# Altium schematic symbol library SCH - ADC - TI AD9057.SCHLIB: 1 symbol
Pins are listed as number, name and electrical type; pins without a type are passive.

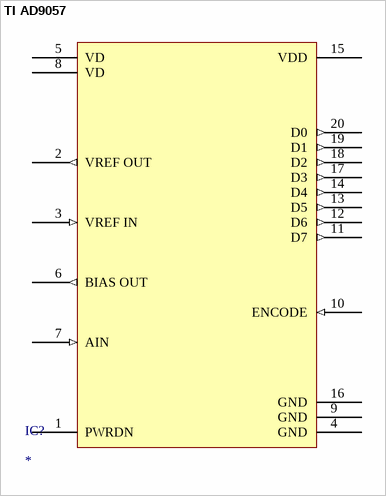
[diagram p0: symbol TI AD9057]

## TI AD9057
designator IC?
pins: 1 PWRDN, 2 VREF OUT (out), 3 VREF IN (in), 4 GND (power), 5 VD (power), 6 BIAS OUT (out), 7 AIN (in), 8 VD (power), 9 GND (power), 10 ENCODE (in), 11 D7 (out), 12 D6 (out), 13 D5 (out), 14 D4 (out), 15 VDD, 16 GND (power), 17 D3 (out), 18 D2 (out), 19 D1 (out), 20 D0 (out)